# Altium integrated library Resistors_CPF-0805.IntLib: 984 symbols (part 1 of 6)
Pins are listed as number, name and electrical type; pins without a type are passive.

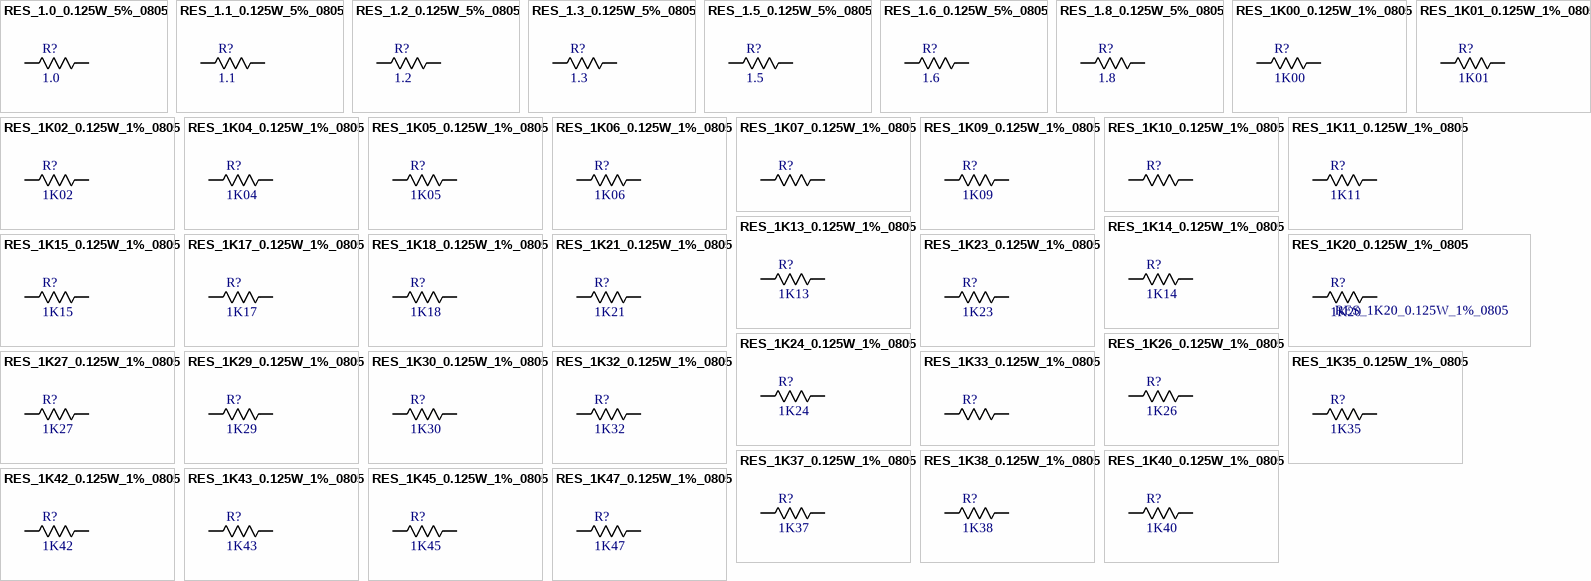
[diagram p0: symbols RES_1.0_0.125W_5%_0805 to RES_1K47_0.125W_1%_0805]

## RES_1.0_0.125W_5%_0805
designator R?  Value[OHM ]: 1.0  (hidden comment: RES_1.0_0.125W_5%_0805)
Resistenza SMD TE Connectivity Film sottile; Voltage[V]: 100; Tollerance[%]: 0.1; Serie: CPF; Vendor: TE Connectivity; Type: Resistors; Package: 0805; Power[W]: 0.1
footprint RES_0816_SUS(My_MAXI)
pins: 1, 2

## RES_1.1_0.125W_5%_0805
designator R?  Value[OHM ]: 1.1  (hidden comment: RES_1.1_0.125W_5%_0805)
Resistenza SMD TE Connectivity Film sottile; Voltage[V]: 100; Tollerance[%]: 0.05; Power[W]: 0.1; Serie: CPF; Vendor: TE Connectivity; Type: Resistors; Package: 0805
footprint RES_0816_SUS(My_MAXI)
pins: 1, 2

## RES_1.2_0.125W_5%_0805
designator R?  Value[OHM ]: 1.2  (hidden comment: RES_1.2_0.125W_5%_0805)
Resistenza SMD TE Connectivity Film sottile; Voltage[V]: 100; Tollerance[%]: 0.05; Power[W]: 0.1; Serie: CPF; Vendor: TE Connectivity; Type: Resistors; Package: 0805
footprint RES_0816_SUS(My_MAXI)
pins: 1, 2

## RES_1.3_0.125W_5%_0805
designator R?  Value[OHM ]: 1.3  (hidden comment: RES_1.3_0.125W_5%_0805)
Resistenza SMD TE Connectivity Film sottile; Voltage[V]: 100; Tollerance[%]: 0.05; Power[W]: 0.1; Serie: CPF; Vendor: TE Connectivity; Type: Resistors; Package: 0805
footprint RES_0816_SUS(My_MAXI)
pins: 1, 2

## RES_1.5_0.125W_5%_0805
designator R?  Value[OHM ]: 1.5  (hidden comment: RES_1.5_0.125W_5%_0805)
Resistenza SMD TE Connectivity Film sottile; Voltage[V]: 100; Tollerance[%]: 0.05; Power[W]: 0.1; Serie: CPF; Vendor: TE Connectivity; Type: Resistors; Package: 0805
footprint RES_0816_SUS(My_MAXI)
pins: 1, 2

## RES_1.6_0.125W_5%_0805
designator R?  Value[OHM ]: 1.6  (hidden comment: RES_1.6_0.125W_5%_0805)
Resistenza SMD TE Connectivity Film sottile; Voltage[V]: 100; Tollerance[%]: 0.05; Power[W]: 0.1; Serie: CPF; Vendor: TE Connectivity; Type: Resistors; Package: 0805
footprint RES_0816_SUS(My_MAXI)
pins: 1, 2

## RES_1.8_0.125W_5%_0805
designator R?  Value[OHM ]: 1.8  (hidden comment: RES_1.8_0.125W_5%_0805)
Resistenza SMD TE Connectivity Film sottile; Voltage[V]: 100; Tollerance[%]: 0.05; Power[W]: 0.1; Serie: CPF; Vendor: TE Connectivity; Type: Resistors; Package: 0805
footprint RES_0816_SUS(My_MAXI)
pins: 1, 2

## RES_1K00_0.125W_1%_0805
designator R?  Value[OHM ]: 1K00  (hidden comment: RES_1K00_0.125W_1%_0805)
Resistenza SMD TE Connectivity Film sottile; Voltage[V]: 100; Tollerance[%]: 0.1; Serie: CPF; Vendor: TE Connectivity; Type: Resistors; Package: 0805; Power[W]: 0.1
footprint RES_0816_SUS(My_MAXI)
pins: 1, 2

## RES_1K01_0.125W_1%_0805
designator R?  Value[OHM ]: 1K01  (hidden comment: RES_1K01_0.125W_1%_0805)
Resistenza SMD TE Connectivity Film sottile; Voltage[V]: 100; Tollerance[%]: 0.1; Serie: CPF; Vendor: TE Connectivity; Type: Resistors; Package: 0805; Power[W]: 0.1
footprint RES_0816_SUS(My_MAXI)
pins: 1, 2

## RES_1K02_0.125W_1%_0805
designator R?  Value[OHM ]: 1K02  (hidden comment: RES_1K02_0.125W_1%_0805)
Resistenza SMD TE Connectivity Film sottile; Voltage[V]: 100; Tollerance[%]: 0.1; Serie: CPF; Vendor: TE Connectivity; Type: Resistors; Package: 0805; Power[W]: 0.1
footprint RES_0816_SUS(My_MAXI)
pins: 1, 2

## RES_1K04_0.125W_1%_0805
designator R?  Value[OHM ]: 1K04  (hidden comment: RES_1K04_0.125W_1%_0805)
Resistenza SMD TE Connectivity Film sottile; Voltage[V]: 100; Tollerance[%]: 0.1; Serie: CPF; Vendor: TE Connectivity; Type: Resistors; Package: 0805; Power[W]: 0.1
footprint RES_0816_SUS(My_MAXI)
pins: 1, 2

## RES_1K05_0.125W_1%_0805
designator R?  Value[OHM ]: 1K05  (hidden comment: RES_1K05_0.125W_1%_0805)
Resistenza SMD TE Connectivity Film sottile; Voltage[V]: 100; Tollerance[%]: 0.1; Serie: CPF; Vendor: TE Connectivity; Type: Resistors; Package: 0805; Power[W]: 0.1
footprint RES_0816_SUS(My_MAXI)
pins: 1, 2

## RES_1K06_0.125W_1%_0805
designator R?  Value[OHM ]: 1K06  (hidden comment: RES_1K06_0.125W_1%_0805)
Resistenza SMD TE Connectivity Film sottile; Voltage[V]: 100; Tollerance[%]: 0.1; Serie: CPF; Vendor: TE Connectivity; Type: Resistors; Package: 0805; Power[W]: 0.1
footprint RES_0816_SUS(My_MAXI)
pins: 1, 2

## RES_1K07_0.125W_1%_0805
designator R?  (value not drawn)
Resistenza SMD TE Connectivity Film sottile; Voltage[V]: 100; Tollerance[%]: 0.1; Serie: CPF; Value[OHM ]: 1K07; Vendor: TE Connectivity; Type: Resistors; Package: 0805; Power[W]: 0.1
footprint RES_0816_SUS(My_MAXI)
pins: 1, 2

## RES_1K09_0.125W_1%_0805
designator R?  Value[OHM ]: 1K09  (hidden comment: RES_1K09_0.125W_1%_0805)
Resistenza SMD TE Connectivity Film sottile; Voltage[V]: 100; Tollerance[%]: 0.1; Serie: CPF; Vendor: TE Connectivity; Type: Resistors; Package: 0805; Power[W]: 0.1
footprint RES_0816_SUS(My_MAXI)
pins: 1, 2

## RES_1K10_0.125W_1%_0805
designator R?  (value not drawn)
Resistenza SMD TE Connectivity Film sottile; Voltage[V]: 100; Tollerance[%]: 0.1; Serie: CPF; Value[OHM ]: 1K10; Vendor: TE Connectivity; Type: Resistors; Package: 0805; Power[W]: 0.1
footprint RES_0816_SUS(My_MAXI)
pins: 1, 2

## RES_1K11_0.125W_1%_0805
designator R?  Value[OHM ]: 1K11  (hidden comment: RES_1K11_0.125W_1%_0805)
Resistenza SMD TE Connectivity Film sottile; Voltage[V]: 100; Tollerance[%]: 0.1; Serie: CPF; Vendor: TE Connectivity; Type: Resistors; Package: 0805; Power[W]: 0.1
footprint RES_0816_SUS(My_MAXI)
pins: 1, 2

## RES_1K13_0.125W_1%_0805
designator R?  Value[OHM ]: 1K13  (hidden comment: RES_1K13_0.125W_1%_0805)
Resistenza SMD TE Connectivity Film sottile; Voltage[V]: 100; Tollerance[%]: 0.1; Serie: CPF; Vendor: TE Connectivity; Type: Resistors; Package: 0805; Power[W]: 0.1
footprint RES_0816_SUS(My_MAXI)
pins: 1, 2

## RES_1K14_0.125W_1%_0805
designator R?  Value[OHM ]: 1K14  (hidden comment: RES_1K14_0.125W_1%_0805)
Resistenza SMD TE Connectivity Film sottile; Voltage[V]: 100; Tollerance[%]: 0.1; Serie: CPF; Vendor: TE Connectivity; Type: Resistors; Package: 0805; Power[W]: 0.1
footprint RES_0816_SUS(My_MAXI)
pins: 1, 2

## RES_1K15_0.125W_1%_0805
designator R?  Value[OHM ]: 1K15  (hidden comment: RES_1K15_0.125W_1%_0805)
Resistenza SMD TE Connectivity Film sottile; Voltage[V]: 100; Tollerance[%]: 0.1; Serie: CPF; Vendor: TE Connectivity; Type: Resistors; Package: 0805; Power[W]: 0.1
footprint RES_0816_SUS(My_MAXI)
pins: 1, 2

## RES_1K17_0.125W_1%_0805
designator R?  Value[OHM ]: 1K17  (hidden comment: RES_1K17_0.125W_1%_0805)
Resistenza SMD TE Connectivity Film sottile; Voltage[V]: 100; Tollerance[%]: 0.1; Serie: CPF; Vendor: TE Connectivity; Type: Resistors; Package: 0805; Power[W]: 0.1
footprint RES_0816_SUS(My_MAXI)
pins: 1, 2

## RES_1K18_0.125W_1%_0805
designator R?  Value[OHM ]: 1K18  (hidden comment: RES_1K18_0.125W_1%_0805)
Resistenza SMD TE Connectivity Film sottile; Voltage[V]: 100; Tollerance[%]: 0.1; Serie: CPF; Vendor: TE Connectivity; Type: Resistors; Package: 0805; Power[W]: 0.1
footprint RES_0816_SUS(My_MAXI)
pins: 1, 2

## RES_1K20_0.125W_1%_0805
designator R?  Value[OHM ]: 1K20
Resistenza SMD TE Connectivity Film sottile; Voltage[V]: 100; Tollerance[%]: 0.1; Serie: CPF; Vendor: TE Connectivity; Type: Resistors; Package: 0805; Power[W]: 0.1
footprint RES_0816_SUS(My_MAXI)
pins: 1, 2

## RES_1K21_0.125W_1%_0805
designator R?  Value[OHM ]: 1K21  (hidden comment: RES_1K21_0.125W_1%_0805)
Resistenza SMD TE Connectivity Film sottile; Voltage[V]: 100; Tollerance[%]: 0.1; Serie: CPF; Vendor: TE Connectivity; Type: Resistors; Package: 0805; Power[W]: 0.1
footprint RES_0816_SUS(My_MAXI)
pins: 1, 2

## RES_1K23_0.125W_1%_0805
designator R?  Value[OHM ]: 1K23  (hidden comment: RES_1K23_0.125W_1%_0805)
Resistenza SMD TE Connectivity Film sottile; Voltage[V]: 100; Tollerance[%]: 0.1; Serie: CPF; Vendor: TE Connectivity; Type: Resistors; Package: 0805; Power[W]: 0.1
footprint RES_0816_SUS(My_MAXI)
pins: 1, 2

## RES_1K24_0.125W_1%_0805
designator R?  Value[OHM ]: 1K24  (hidden comment: RES_1K24_0.125W_1%_0805)
Resistenza SMD TE Connectivity Film sottile; Voltage[V]: 100; Tollerance[%]: 0.1; Serie: CPF; Vendor: TE Connectivity; Type: Resistors; Package: 0805; Power[W]: 0.1
footprint RES_0816_SUS(My_MAXI)
pins: 1, 2

## RES_1K26_0.125W_1%_0805
designator R?  Value[OHM ]: 1K26  (hidden comment: RES_1K26_0.125W_1%_0805)
Resistenza SMD TE Connectivity Film sottile; Voltage[V]: 100; Tollerance[%]: 0.1; Serie: CPF; Vendor: TE Connectivity; Type: Resistors; Package: 0805; Power[W]: 0.1
footprint RES_0816_SUS(My_MAXI)
pins: 1, 2

## RES_1K27_0.125W_1%_0805
designator R?  Value[OHM ]: 1K27  (hidden comment: RES_1K27_0.125W_1%_0805)
Resistenza SMD TE Connectivity Film sottile; Voltage[V]: 100; Tollerance[%]: 0.1; Serie: CPF; Vendor: TE Connectivity; Type: Resistors; Package: 0805; Power[W]: 0.1
footprint RES_0816_SUS(My_MAXI)
pins: 1, 2

## RES_1K29_0.125W_1%_0805
designator R?  Value[OHM ]: 1K29  (hidden comment: RES_1K29_0.125W_1%_0805)
Resistenza SMD TE Connectivity Film sottile; Voltage[V]: 100; Tollerance[%]: 0.1; Serie: CPF; Vendor: TE Connectivity; Type: Resistors; Package: 0805; Power[W]: 0.1
footprint RES_0816_SUS(My_MAXI)
pins: 1, 2

## RES_1K30_0.125W_1%_0805
designator R?  Value[OHM ]: 1K30  (hidden comment: RES_1K30_0.125W_1%_0805)
Resistenza SMD TE Connectivity Film sottile; Voltage[V]: 100; Tollerance[%]: 0.1; Serie: CPF; Vendor: TE Connectivity; Type: Resistors; Package: 0805; Power[W]: 0.1
footprint RES_0816_SUS(My_MAXI)
pins: 1, 2

## RES_1K32_0.125W_1%_0805
designator R?  Value[OHM ]: 1K32  (hidden comment: RES_1K32_0.125W_1%_0805)
Resistenza SMD TE Connectivity Film sottile; Voltage[V]: 100; Tollerance[%]: 0.1; Serie: CPF; Vendor: TE Connectivity; Type: Resistors; Package: 0805; Power[W]: 0.1
footprint RES_0816_SUS(My_MAXI)
pins: 1, 2

## RES_1K33_0.125W_1%_0805
designator R?  (value not drawn)
Resistenza SMD TE Connectivity Film sottile; Voltage[V]: 100; Tollerance[%]: 0.1; Serie: CPF; Value[OHM ]: 1K33; Vendor: TE Connectivity; Type: Resistors; Package: 0805; Power[W]: 0.1
footprint RES_0816_SUS(My_MAXI)
pins: 1, 2

## RES_1K35_0.125W_1%_0805
designator R?  Value[OHM ]: 1K35  (hidden comment: RES_1K35_0.125W_1%_0805)
Resistenza SMD TE Connectivity Film sottile; Voltage[V]: 100; Tollerance[%]: 0.1; Serie: CPF; Vendor: TE Connectivity; Type: Resistors; Package: 0805; Power[W]: 0.1
footprint RES_0816_SUS(My_MAXI)
pins: 1, 2

## RES_1K37_0.125W_1%_0805
designator R?  Value[OHM ]: 1K37  (hidden comment: RES_1K37_0.125W_1%_0805)
Resistenza SMD TE Connectivity Film sottile; Voltage[V]: 100; Tollerance[%]: 0.1; Serie: CPF; Vendor: TE Connectivity; Type: Resistors; Package: 0805; Power[W]: 0.1
footprint RES_0816_SUS(My_MAXI)
pins: 1, 2

## RES_1K38_0.125W_1%_0805
designator R?  Value[OHM ]: 1K38  (hidden comment: RES_1K38_0.125W_1%_0805)
Resistenza SMD TE Connectivity Film sottile; Voltage[V]: 100; Tollerance[%]: 0.1; Serie: CPF; Vendor: TE Connectivity; Type: Resistors; Package: 0805; Power[W]: 0.1
footprint RES_0816_SUS(My_MAXI)
pins: 1, 2

## RES_1K40_0.125W_1%_0805
designator R?  Value[OHM ]: 1K40  (hidden comment: RES_1K40_0.125W_1%_0805)
Resistenza SMD TE Connectivity Film sottile; Voltage[V]: 100; Tollerance[%]: 0.1; Serie: CPF; Vendor: TE Connectivity; Type: Resistors; Package: 0805; Power[W]: 0.1
footprint RES_0816_SUS(My_MAXI)
pins: 1, 2

## RES_1K42_0.125W_1%_0805
designator R?  Value[OHM ]: 1K42  (hidden comment: RES_1K42_0.125W_1%_0805)
Resistenza SMD TE Connectivity Film sottile; Voltage[V]: 100; Tollerance[%]: 0.1; Serie: CPF; Vendor: TE Connectivity; Type: Resistors; Package: 0805; Power[W]: 0.1
footprint RES_0816_SUS(My_MAXI)
pins: 1, 2

## RES_1K43_0.125W_1%_0805
designator R?  Value[OHM ]: 1K43  (hidden comment: RES_1K43_0.125W_1%_0805)
Resistenza SMD TE Connectivity Film sottile; Voltage[V]: 100; Tollerance[%]: 0.1; Serie: CPF; Vendor: TE Connectivity; Type: Resistors; Package: 0805; Power[W]: 0.1
footprint RES_0816_SUS(My_MAXI)
pins: 1, 2

## RES_1K45_0.125W_1%_0805
designator R?  Value[OHM ]: 1K45  (hidden comment: RES_1K45_0.125W_1%_0805)
Resistenza SMD TE Connectivity Film sottile; Voltage[V]: 100; Tollerance[%]: 0.1; Serie: CPF; Vendor: TE Connectivity; Type: Resistors; Package: 0805; Power[W]: 0.1
footprint RES_0816_SUS(My_MAXI)
pins: 1, 2

## RES_1K47_0.125W_1%_0805
designator R?  Value[OHM ]: 1K47  (hidden comment: RES_1K47_0.125W_1%_0805)
Resistenza SMD TE Connectivity Film sottile; Voltage[V]: 100; Tollerance[%]: 0.1; Serie: CPF; Vendor: TE Connectivity; Type: Resistors; Package: 0805; Power[W]: 0.1
footprint RES_0816_SUS(My_MAXI)
pins: 1, 2

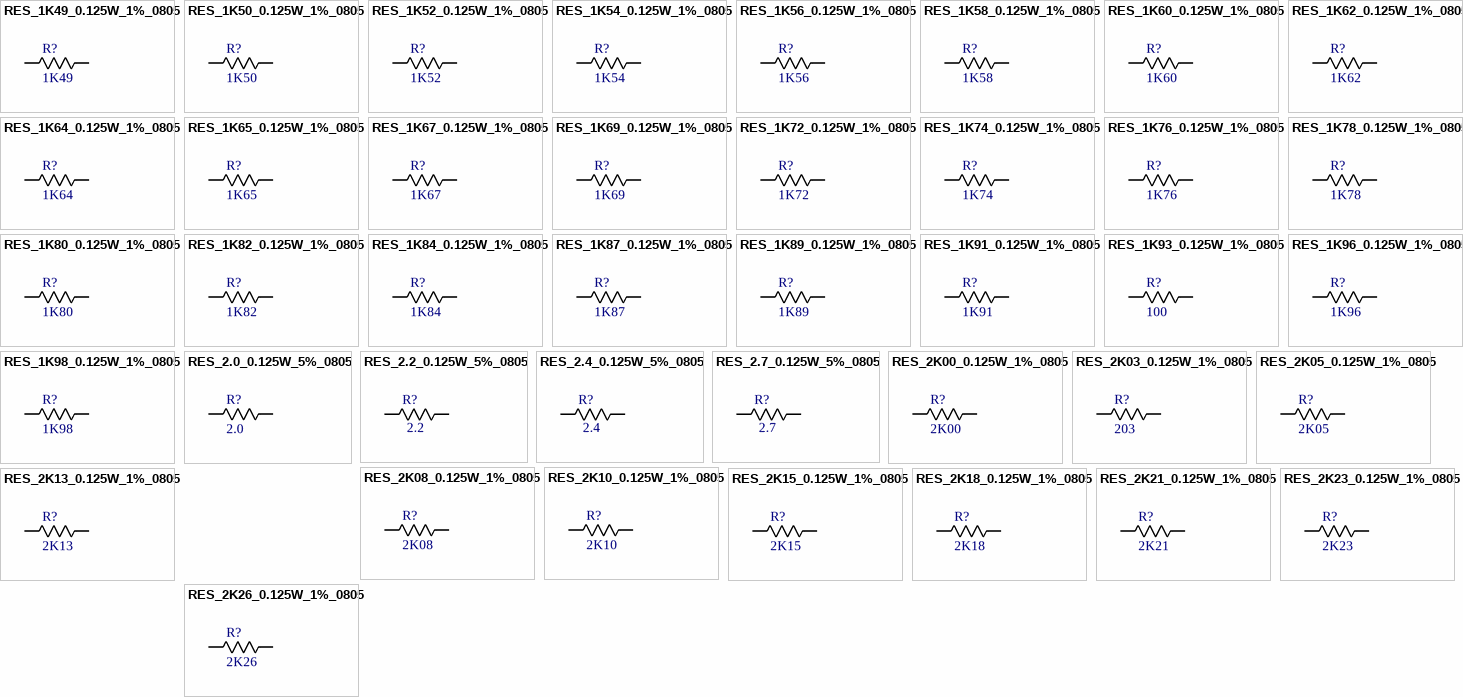
[diagram p1: symbols RES_1K49_0.125W_1%_0805 to RES_2K26_0.125W_1%_0805]

## RES_1K49_0.125W_1%_0805
designator R?  Value[OHM ]: 1K49  (hidden comment: RES_1K49_0.125W_1%_0805)
Resistenza SMD TE Connectivity Film sottile; Voltage[V]: 100; Tollerance[%]: 0.1; Serie: CPF; Vendor: TE Connectivity; Type: Resistors; Package: 0805; Power[W]: 0.1
footprint RES_0816_SUS(My_MAXI)
pins: 1, 2

## RES_1K50_0.125W_1%_0805
designator R?  Value[OHM ]: 1K50  (hidden comment: RES_1K50_0.125W_1%_0805)
Resistenza SMD TE Connectivity Film sottile; Voltage[V]: 100; Tollerance[%]: 0.1; Serie: CPF; Vendor: TE Connectivity; Type: Resistors; Package: 0805; Power[W]: 0.1
footprint RES_0816_SUS(My_MAXI)
pins: 1, 2

## RES_1K52_0.125W_1%_0805
designator R?  Value[OHM ]: 1K52  (hidden comment: RES_1K52_0.125W_1%_0805)
Resistenza SMD TE Connectivity Film sottile; Voltage[V]: 100; Tollerance[%]: 0.1; Serie: CPF; Vendor: TE Connectivity; Type: Resistors; Package: 0805; Power[W]: 0.1
footprint RES_0816_SUS(My_MAXI)
pins: 1, 2

## RES_1K54_0.125W_1%_0805
designator R?  Value[OHM ]: 1K54  (hidden comment: RES_1K54_0.125W_1%_0805)
Resistenza SMD TE Connectivity Film sottile; Voltage[V]: 100; Tollerance[%]: 0.1; Serie: CPF; Vendor: TE Connectivity; Type: Resistors; Package: 0805; Power[W]: 0.1
footprint RES_0816_SUS(My_MAXI)
pins: 1, 2

## RES_1K56_0.125W_1%_0805
designator R?  Value[OHM ]: 1K56  (hidden comment: RES_1K56_0.125W_1%_0805)
Resistenza SMD TE Connectivity Film sottile; Voltage[V]: 100; Tollerance[%]: 0.1; Serie: CPF; Vendor: TE Connectivity; Type: Resistors; Package: 0805; Power[W]: 0.1
footprint RES_0816_SUS(My_MAXI)
pins: 1, 2

## RES_1K58_0.125W_1%_0805
designator R?  Value[OHM ]: 1K58  (hidden comment: RES_1K58_0.125W_1%_0805)
Resistenza SMD TE Connectivity Film sottile; Voltage[V]: 100; Tollerance[%]: 0.1; Serie: CPF; Vendor: TE Connectivity; Type: Resistors; Package: 0805; Power[W]: 0.1
footprint RES_0816_SUS(My_MAXI)
pins: 1, 2

## RES_1K60_0.125W_1%_0805
designator R?  Value[OHM ]: 1K60  (hidden comment: RES_1K60_0.125W_1%_0805)
Resistenza SMD TE Connectivity Film sottile; Voltage[V]: 100; Tollerance[%]: 0.1; Serie: CPF; Vendor: TE Connectivity; Type: Resistors; Package: 0805; Power[W]: 0.1
footprint RES_0816_SUS(My_MAXI)
pins: 1, 2

## RES_1K62_0.125W_1%_0805
designator R?  Value[OHM ]: 1K62  (hidden comment: RES_1K62_0.125W_1%_0805)
Resistenza SMD TE Connectivity Film sottile; Voltage[V]: 100; Tollerance[%]: 0.1; Serie: CPF; Vendor: TE Connectivity; Type: Resistors; Package: 0805; Power[W]: 0.1
footprint RES_0816_SUS(My_MAXI)
pins: 1, 2

## RES_1K64_0.125W_1%_0805
designator R?  Value[OHM ]: 1K64  (hidden comment: RES_1K64_0.125W_1%_0805)
Resistenza SMD TE Connectivity Film sottile; Voltage[V]: 100; Tollerance[%]: 0.1; Serie: CPF; Vendor: TE Connectivity; Type: Resistors; Package: 0805; Power[W]: 0.1
footprint RES_0816_SUS(My_MAXI)
pins: 1, 2

## RES_1K65_0.125W_1%_0805
designator R?  Value[OHM ]: 1K65  (hidden comment: RES_1K65_0.125W_1%_0805)
Resistenza SMD TE Connectivity Film sottile; Voltage[V]: 100; Tollerance[%]: 0.1; Serie: CPF; Vendor: TE Connectivity; Type: Resistors; Package: 0805; Power[W]: 0.1
footprint RES_0816_SUS(My_MAXI)
pins: 1, 2

## RES_1K67_0.125W_1%_0805
designator R?  Value[OHM ]: 1K67  (hidden comment: RES_1K67_0.125W_1%_0805)
Resistenza SMD TE Connectivity Film sottile; Voltage[V]: 100; Tollerance[%]: 0.1; Serie: CPF; Vendor: TE Connectivity; Type: Resistors; Package: 0805; Power[W]: 0.1
footprint RES_0816_SUS(My_MAXI)
pins: 1, 2

## RES_1K69_0.125W_1%_0805
designator R?  Value[OHM ]: 1K69  (hidden comment: RES_1K69_0.125W_1%_0805)
Resistenza SMD TE Connectivity Film sottile; Voltage[V]: 100; Tollerance[%]: 0.1; Serie: CPF; Vendor: TE Connectivity; Type: Resistors; Package: 0805; Power[W]: 0.1
footprint RES_0816_SUS(My_MAXI)
pins: 1, 2

## RES_1K72_0.125W_1%_0805
designator R?  Value[OHM ]: 1K72  (hidden comment: RES_1K72_0.125W_1%_0805)
Resistenza SMD TE Connectivity Film sottile; Voltage[V]: 100; Tollerance[%]: 0.1; Serie: CPF; Vendor: TE Connectivity; Type: Resistors; Package: 0805; Power[W]: 0.1
footprint RES_0816_SUS(My_MAXI)
pins: 1, 2

## RES_1K74_0.125W_1%_0805
designator R?  Value[OHM ]: 1K74  (hidden comment: RES_1K74_0.125W_1%_0805)
Resistenza SMD TE Connectivity Film sottile; Voltage[V]: 100; Tollerance[%]: 0.1; Serie: CPF; Vendor: TE Connectivity; Type: Resistors; Package: 0805; Power[W]: 0.1
footprint RES_0816_SUS(My_MAXI)
pins: 1, 2

## RES_1K76_0.125W_1%_0805
designator R?  Value[OHM ]: 1K76  (hidden comment: RES_1K76_0.125W_1%_0805)
Resistenza SMD TE Connectivity Film sottile; Voltage[V]: 100; Tollerance[%]: 0.1; Serie: CPF; Vendor: TE Connectivity; Type: Resistors; Package: 0805; Power[W]: 0.1
footprint RES_0816_SUS(My_MAXI)
pins: 1, 2

## RES_1K78_0.125W_1%_0805
designator R?  Value[OHM ]: 1K78  (hidden comment: RES_1K78_0.125W_1%_0805)
Resistenza SMD TE Connectivity Film sottile; Voltage[V]: 100; Tollerance[%]: 0.1; Serie: CPF; Vendor: TE Connectivity; Type: Resistors; Package: 0805; Power[W]: 0.1
footprint RES_0816_SUS(My_MAXI)
pins: 1, 2

## RES_1K80_0.125W_1%_0805
designator R?  Value[OHM ]: 1K80  (hidden comment: RES_1K80_0.125W_1%_0805)
Resistenza SMD TE Connectivity Film sottile; Voltage[V]: 100; Tollerance[%]: 0.1; Serie: CPF; Vendor: TE Connectivity; Type: Resistors; Package: 0805; Power[W]: 0.1
footprint RES_0816_SUS(My_MAXI)
pins: 1, 2

## RES_1K82_0.125W_1%_0805
designator R?  Value[OHM ]: 1K82  (hidden comment: RES_1K82_0.125W_1%_0805)
Resistenza SMD TE Connectivity Film sottile; Voltage[V]: 100; Tollerance[%]: 0.1; Serie: CPF; Vendor: TE Connectivity; Type: Resistors; Package: 0805; Power[W]: 0.1
footprint RES_0816_SUS(My_MAXI)
pins: 1, 2

## RES_1K84_0.125W_1%_0805
designator R?  Value[OHM ]: 1K84  (hidden comment: RES_1K84_0.125W_1%_0805)
Resistenza SMD TE Connectivity Film sottile; Voltage[V]: 100; Tollerance[%]: 0.1; Serie: CPF; Vendor: TE Connectivity; Type: Resistors; Package: 0805; Power[W]: 0.1
footprint RES_0816_SUS(My_MAXI)
pins: 1, 2

## RES_1K87_0.125W_1%_0805
designator R?  Value[OHM ]: 1K87  (hidden comment: RES_1K87_0.125W_1%_0805)
Resistenza SMD TE Connectivity Film sottile; Voltage[V]: 100; Tollerance[%]: 0.1; Serie: CPF; Vendor: TE Connectivity; Type: Resistors; Package: 0805; Power[W]: 0.1
footprint RES_0816_SUS(My_MAXI)
pins: 1, 2

## RES_1K89_0.125W_1%_0805
designator R?  Value[OHM ]: 1K89  (hidden comment: RES_1K89_0.125W_1%_0805)
Resistenza SMD TE Connectivity Film sottile; Voltage[V]: 100; Tollerance[%]: 0.1; Serie: CPF; Vendor: TE Connectivity; Type: Resistors; Package: 0805; Power[W]: 0.1
footprint RES_0816_SUS(My_MAXI)
pins: 1, 2

## RES_1K91_0.125W_1%_0805
designator R?  Value[OHM ]: 1K91  (hidden comment: RES_1K91_0.125W_1%_0805)
Resistenza SMD TE Connectivity Film sottile; Voltage[V]: 100; Tollerance[%]: 0.1; Serie: CPF; Vendor: TE Connectivity; Type: Resistors; Package: 0805; Power[W]: 0.1
footprint RES_0816_SUS(My_MAXI)
pins: 1, 2

## RES_1K93_0.125W_1%_0805
designator R?  Value[OHM ]: 100  (hidden comment: RES_1K93_0.125W_1%_0805)
Resistenza SMD TE Connectivity Film sottile; Tollerance[%]: 0.1; Serie: CPF; Vendor: TE Connectivity; Type: Resistors; Voltage[V]: 100; Package: 0805; Power[W]: 0.1
footprint RES_0816_SUS(My_MAXI)
pins: 1, 2

## RES_1K96_0.125W_1%_0805
designator R?  Value[OHM ]: 1K96  (hidden comment: RES_1K96_0.125W_1%_0805)
Resistenza SMD TE Connectivity Film sottile; Voltage[V]: 100; Tollerance[%]: 0.1; Serie: CPF; Vendor: TE Connectivity; Type: Resistors; Package: 0805; Power[W]: 0.1
footprint RES_0816_SUS(My_MAXI)
pins: 1, 2

## RES_1K98_0.125W_1%_0805
designator R?  Value[OHM ]: 1K98  (hidden comment: RES_1K98_0.125W_1%_0805)
Resistenza SMD TE Connectivity Film sottile; Voltage[V]: 100; Tollerance[%]: 0.1; Serie: CPF; Vendor: TE Connectivity; Type: Resistors; Package: 0805; Power[W]: 0.1
footprint RES_0816_SUS(My_MAXI)
pins: 1, 2

## RES_2.0_0.125W_5%_0805
designator R?  Value[OHM ]: 2.0  (hidden comment: RES_2.0_0.125W_5%_0805)
Resistenza SMD TE Connectivity Film sottile; Voltage[V]: 100; Tollerance[%]: 0.05; Power[W]: 0.1; Serie: CPF; Vendor: TE Connectivity; Type: Resistors; Package: 0805
footprint RES_0816_SUS(My_MAXI)
pins: 1, 2

## RES_2.2_0.125W_5%_0805
designator R?, comment 2.2
Resistenza SMD TE Connectivity Film sottile; Voltage[V]: 100; Tollerance[%]: 0.05; Power[W]: 0.1; Serie: CPF; Vendor: TE Connectivity; Type: Resistors; Package: 0805; Value[OHM ]: 2.2
footprint RES_0816_SUS(My_MAXI)
pins: 1, 2

## RES_2.4_0.125W_5%_0805
designator R?, comment 2.4
Resistenza SMD TE Connectivity Film sottile; Voltage[V]: 100; Tollerance[%]: 0.05; Power[W]: 0.1; Serie: CPF; Vendor: TE Connectivity; Type: Resistors; Package: 0805; Value[OHM ]: 2.4
footprint RES_0816_SUS(My_MAXI)
pins: 1, 2

## RES_2.7_0.125W_5%_0805
designator R?, comment 2.7
Resistenza SMD TE Connectivity Film sottile; Voltage[V]: 100; Tollerance[%]: 0.05; Power[W]: 0.1; Serie: CPF; Vendor: TE Connectivity; Type: Resistors; Package: 0805; Value[OHM ]: 2.7
footprint RES_0816_SUS(My_MAXI)
pins: 1, 2

## RES_2K00_0.125W_1%_0805
designator R?  Value[OHM ]: 2K00  (hidden comment: RES_2K00_0.125W_1%_0805)
Resistenza SMD TE Connectivity Film sottile; Voltage[V]: 100; Tollerance[%]: 0.1; Serie: CPF; Vendor: TE Connectivity; Type: Resistors; Package: 0805; Power[W]: 0.1
footprint RES_0816_SUS(My_MAXI)
pins: 1, 2

## RES_2K03_0.125W_1%_0805
designator R?  Value[OHM ]: 203  (hidden comment: RES_2K03_0.125W_1%_0805)
Resistenza SMD TE Connectivity Film sottile; Voltage[V]: 100; Tollerance[%]: 0.1; Serie: CPF; Vendor: TE Connectivity; Type: Resistors; Package: 0805; Power[W]: 0.1
footprint RES_0816_SUS(My_MAXI)
pins: 1, 2

## RES_2K05_0.125W_1%_0805
designator R?  Value[OHM ]: 2K05  (hidden comment: RES_2K05_0.125W_1%_0805)
Resistenza SMD TE Connectivity Film sottile; Voltage[V]: 100; Tollerance[%]: 0.1; Serie: CPF; Vendor: TE Connectivity; Type: Resistors; Package: 0805; Power[W]: 0.1
footprint RES_0816_SUS(My_MAXI)
pins: 1, 2

## RES_2K08_0.125W_1%_0805
designator R?  Value[OHM ]: 2K08  (hidden comment: RES_2K08_0.125W_1%_0805)
Resistenza SMD TE Connectivity Film sottile; Voltage[V]: 100; Tollerance[%]: 0.1; Serie: CPF; Vendor: TE Connectivity; Type: Resistors; Package: 0805; Power[W]: 0.1
footprint RES_0816_SUS(My_MAXI)
pins: 1, 2

## RES_2K10_0.125W_1%_0805
designator R?  Value[OHM ]: 2K10  (hidden comment: RES_2K10_0.125W_1%_0805)
Resistenza SMD TE Connectivity Film sottile; Voltage[V]: 100; Tollerance[%]: 0.1; Serie: CPF; Vendor: TE Connectivity; Type: Resistors; Package: 0805; Power[W]: 0.1
footprint RES_0816_SUS(My_MAXI)
pins: 1, 2

## RES_2K13_0.125W_1%_0805
designator R?  Value[OHM ]: 2K13  (hidden comment: RES_2K13_0.125W_1%_0805)
Resistenza SMD TE Connectivity Film sottile; Voltage[V]: 100; Tollerance[%]: 0.1; Serie: CPF; Vendor: TE Connectivity; Type: Resistors; Package: 0805; Power[W]: 0.1
footprint RES_0816_SUS(My_MAXI)
pins: 1, 2

## RES_2K15_0.125W_1%_0805
designator R?  Value[OHM ]: 2K15  (hidden comment: RES_2K15_0.125W_1%_0805)
Resistenza SMD TE Connectivity Film sottile; Voltage[V]: 100; Tollerance[%]: 0.1; Serie: CPF; Vendor: TE Connectivity; Type: Resistors; Package: 0805; Power[W]: 0.1
footprint RES_0816_SUS(My_MAXI)
pins: 1, 2

## RES_2K18_0.125W_1%_0805
designator R?  Value[OHM ]: 2K18  (hidden comment: RES_2K18_0.125W_1%_0805)
Resistenza SMD TE Connectivity Film sottile; Voltage[V]: 100; Tollerance[%]: 0.1; Serie: CPF; Vendor: TE Connectivity; Type: Resistors; Package: 0805; Power[W]: 0.1
footprint RES_0816_SUS(My_MAXI)
pins: 1, 2

## RES_2K21_0.125W_1%_0805
designator R?  Value[OHM ]: 2K21  (hidden comment: RES_2K21_0.125W_1%_0805)
Resistenza SMD TE Connectivity Film sottile; Voltage[V]: 100; Tollerance[%]: 0.1; Serie: CPF; Vendor: TE Connectivity; Type: Resistors; Package: 0805; Power[W]: 0.1
footprint RES_0816_SUS(My_MAXI)
pins: 1, 2

## RES_2K23_0.125W_1%_0805
designator R?  Value[OHM ]: 2K23  (hidden comment: RES_2K23_0.125W_1%_0805)
Resistenza SMD TE Connectivity Film sottile; Voltage[V]: 100; Tollerance[%]: 0.1; Serie: CPF; Vendor: TE Connectivity; Type: Resistors; Package: 0805; Power[W]: 0.1
footprint RES_0816_SUS(My_MAXI)
pins: 1, 2

## RES_2K26_0.125W_1%_0805
designator R?  Value[OHM ]: 2K26  (hidden comment: RES_2K26_0.125W_1%_0805)
Resistenza SMD TE Connectivity Film sottile; Voltage[V]: 100; Tollerance[%]: 0.1; Serie: CPF; Vendor: TE Connectivity; Type: Resistors; Package: 0805; Power[W]: 0.1
footprint RES_0816_SUS(My_MAXI)
pins: 1, 2

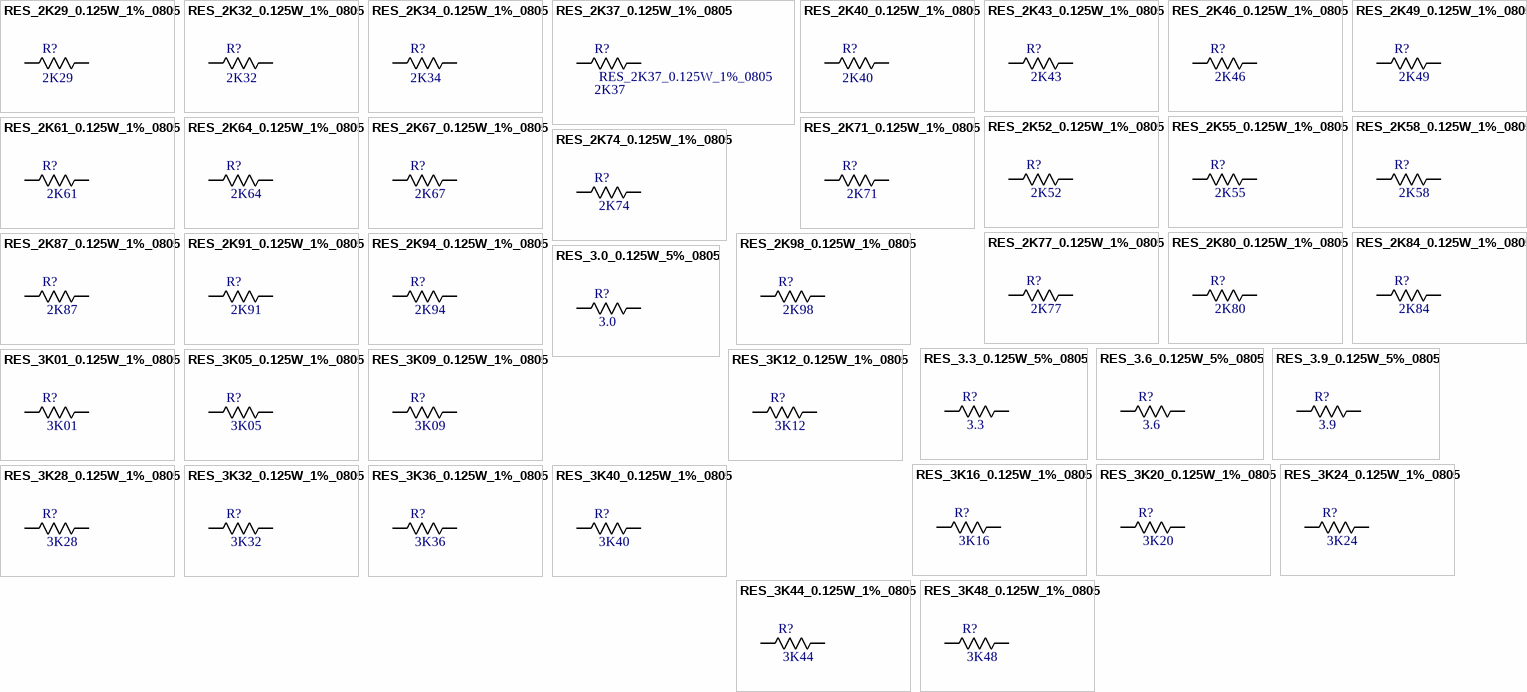
[diagram p2: symbols RES_2K29_0.125W_1%_0805 to RES_3K48_0.125W_1%_0805]

## RES_2K29_0.125W_1%_0805
designator R?  Value[OHM ]: 2K29  (hidden comment: RES_2K29_0.125W_1%_0805)
Resistenza SMD TE Connectivity Film sottile; Voltage[V]: 100; Tollerance[%]: 0.1; Serie: CPF; Vendor: TE Connectivity; Type: Resistors; Package: 0805; Power[W]: 0.1
footprint RES_0816_SUS(My_MAXI)
pins: 1, 2

## RES_2K32_0.125W_1%_0805
designator R?  Value[OHM ]: 2K32  (hidden comment: RES_2K32_0.125W_1%_0805)
Resistenza SMD TE Connectivity Film sottile; Voltage[V]: 100; Tollerance[%]: 0.1; Serie: CPF; Vendor: TE Connectivity; Type: Resistors; Package: 0805; Power[W]: 0.1
footprint RES_0816_SUS(My_MAXI)
pins: 1, 2

## RES_2K34_0.125W_1%_0805
designator R?  Value[OHM ]: 2K34  (hidden comment: RES_2K34_0.125W_1%_0805)
Resistenza SMD TE Connectivity Film sottile; Voltage[V]: 100; Tollerance[%]: 0.1; Serie: CPF; Vendor: TE Connectivity; Type: Resistors; Package: 0805; Power[W]: 0.1
footprint RES_0816_SUS(My_MAXI)
pins: 1, 2

## RES_2K37_0.125W_1%_0805
designator R?  Value[OHM ]: 2K37
Resistenza SMD TE Connectivity Film sottile; Voltage[V]: 100; Tollerance[%]: 0.1; Serie: CPF; Vendor: TE Connectivity; Type: Resistors; Package: 0805; Power[W]: 0.1
footprint RES_0816_SUS(My_MAXI)
pins: 1, 2

## RES_2K40_0.125W_1%_0805
designator R?  Value[OHM ]: 2K40  (hidden comment: RES_2K40_0.125W_1%_0805)
Resistenza SMD TE Connectivity Film sottile; Voltage[V]: 100; Tollerance[%]: 0.1; Serie: CPF; Vendor: TE Connectivity; Type: Resistors; Package: 0805; Power[W]: 0.1
footprint RES_0816_SUS(My_MAXI)
pins: 1, 2

## RES_2K43_0.125W_1%_0805
designator R?, comment 2K43
Resistenza SMD TE Connectivity Film sottile; Voltage[V]: 100; Tollerance[%]: 0.1; Serie: CPF; Vendor: TE Connectivity; Type: Resistors; Package: 0805; Power[W]: 0.1; Value[OHM ]: 2K43
footprint RES_0816_SUS(My_MAXI)
pins: 1, 2

## RES_2K46_0.125W_1%_0805
designator R?, comment 2K46
Resistenza SMD TE Connectivity Film sottile; Voltage[V]: 100; Tollerance[%]: 0.1; Serie: CPF; Vendor: TE Connectivity; Type: Resistors; Package: 0805; Power[W]: 0.1; Value[OHM ]: 2K46
footprint RES_0816_SUS(My_MAXI)
pins: 1, 2

## RES_2K49_0.125W_1%_0805
designator R?, comment 2K49
Resistenza SMD TE Connectivity Film sottile; Voltage[V]: 100; Tollerance[%]: 0.1; Serie: CPF; Vendor: TE Connectivity; Type: Resistors; Package: 0805; Power[W]: 0.1; Value[OHM ]: 2K49
footprint RES_0816_SUS(My_MAXI)
pins: 1, 2

## RES_2K52_0.125W_1%_0805
designator R?, comment 2K52
Resistenza SMD TE Connectivity Film sottile; Voltage[V]: 100; Tollerance[%]: 0.1; Serie: CPF; Vendor: TE Connectivity; Type: Resistors; Package: 0805; Power[W]: 0.1; Value[OHM ]: 2K52
footprint RES_0816_SUS(My_MAXI)
pins: 1, 2

## RES_2K55_0.125W_1%_0805
designator R?, comment 2K55
Resistenza SMD TE Connectivity Film sottile; Voltage[V]: 100; Tollerance[%]: 0.1; Serie: CPF; Vendor: TE Connectivity; Type: Resistors; Package: 0805; Power[W]: 0.1; Value[OHM ]: 2K55
footprint RES_0816_SUS(My_MAXI)
pins: 1, 2

## RES_2K58_0.125W_1%_0805
designator R?, comment 2K58
Resistenza SMD TE Connectivity Film sottile; Voltage[V]: 100; Tollerance[%]: 0.1; Serie: CPF; Vendor: TE Connectivity; Type: Resistors; Package: 0805; Power[W]: 0.1; Value[OHM ]: 2K58
footprint RES_0816_SUS(My_MAXI)
pins: 1, 2

## RES_2K61_0.125W_1%_0805
designator R?, comment 2K61
Resistenza SMD TE Connectivity Film sottile; Voltage[V]: 100; Tollerance[%]: 0.1; Serie: CPF; Vendor: TE Connectivity; Type: Resistors; Package: 0805; Power[W]: 0.1; Value[OHM ]: 2K61
footprint RES_0816_SUS(My_MAXI)
pins: 1, 2

## RES_2K64_0.125W_1%_0805
designator R?, comment 2K64
Resistenza SMD TE Connectivity Film sottile; Voltage[V]: 100; Tollerance[%]: 0.1; Serie: CPF; Vendor: TE Connectivity; Type: Resistors; Package: 0805; Power[W]: 0.1; Value[OHM ]: 2K64
footprint RES_0816_SUS(My_MAXI)
pins: 1, 2

## RES_2K67_0.125W_1%_0805
designator R?, comment 2K67
Resistenza SMD TE Connectivity Film sottile; Voltage[V]: 100; Tollerance[%]: 0.1; Serie: CPF; Vendor: TE Connectivity; Type: Resistors; Package: 0805; Power[W]: 0.1; Value[OHM ]: 2K67
footprint RES_0816_SUS(My_MAXI)
pins: 1, 2

## RES_2K71_0.125W_1%_0805
designator R?, comment 2K71
Resistenza SMD TE Connectivity Film sottile; Voltage[V]: 100; Tollerance[%]: 0.1; Serie: CPF; Vendor: TE Connectivity; Type: Resistors; Package: 0805; Power[W]: 0.1; Value[OHM ]: 2K71
footprint RES_0816_SUS(My_MAXI)
pins: 1, 2

## RES_2K74_0.125W_1%_0805
designator R?, comment 2K74
Resistenza SMD TE Connectivity Film sottile; Voltage[V]: 100; Tollerance[%]: 0.1; Serie: CPF; Vendor: TE Connectivity; Type: Resistors; Package: 0805; Power[W]: 0.1; Value[OHM ]: 2K74
footprint RES_0816_SUS(My_MAXI)
pins: 1, 2

## RES_2K77_0.125W_1%_0805
designator R?, comment 2K77
Resistenza SMD TE Connectivity Film sottile; Voltage[V]: 100; Tollerance[%]: 0.1; Serie: CPF; Vendor: TE Connectivity; Type: Resistors; Package: 0805; Power[W]: 0.1; Value[OHM ]: 2K77
footprint RES_0816_SUS(My_MAXI)
pins: 1, 2

## RES_2K80_0.125W_1%_0805
designator R?, comment 2K80
Resistenza SMD TE Connectivity Film sottile; Voltage[V]: 100; Tollerance[%]: 0.1; Serie: CPF; Vendor: TE Connectivity; Type: Resistors; Package: 0805; Power[W]: 0.1; Value[OHM ]: 2K80
footprint RES_0816_SUS(My_MAXI)
pins: 1, 2

## RES_2K84_0.125W_1%_0805
designator R?, comment 2K84
Resistenza SMD TE Connectivity Film sottile; Voltage[V]: 100; Tollerance[%]: 0.1; Serie: CPF; Vendor: TE Connectivity; Type: Resistors; Package: 0805; Power[W]: 0.1; Value[OHM ]: 2K84
footprint RES_0816_SUS(My_MAXI)
pins: 1, 2

## RES_2K87_0.125W_1%_0805
designator R?, comment 2K87
Resistenza SMD TE Connectivity Film sottile; Voltage[V]: 100; Tollerance[%]: 0.1; Serie: CPF; Vendor: TE Connectivity; Type: Resistors; Package: 0805; Power[W]: 0.1; Value[OHM ]: 2K87
footprint RES_0816_SUS(My_MAXI)
pins: 1, 2

## RES_2K91_0.125W_1%_0805
designator R?, comment 2K91
Resistenza SMD TE Connectivity Film sottile; Voltage[V]: 100; Tollerance[%]: 0.1; Serie: CPF; Vendor: TE Connectivity; Type: Resistors; Package: 0805; Power[W]: 0.1; Value[OHM ]: 2K91
footprint RES_0816_SUS(My_MAXI)
pins: 1, 2

## RES_2K94_0.125W_1%_0805
designator R?, comment 2K94
Resistenza SMD TE Connectivity Film sottile; Voltage[V]: 100; Tollerance[%]: 0.1; Serie: CPF; Vendor: TE Connectivity; Type: Resistors; Package: 0805; Power[W]: 0.1; Value[OHM ]: 2K94
footprint RES_0816_SUS(My_MAXI)
pins: 1, 2

## RES_2K98_0.125W_1%_0805
designator R?, comment 2K98
Resistenza SMD TE Connectivity Film sottile; Voltage[V]: 100; Tollerance[%]: 0.1; Serie: CPF; Vendor: TE Connectivity; Type: Resistors; Package: 0805; Power[W]: 0.1; Value[OHM ]: 2K98
footprint RES_0816_SUS(My_MAXI)
pins: 1, 2

## RES_3.0_0.125W_5%_0805
designator R?, comment 3.0
Resistenza SMD TE Connectivity Film sottile; Voltage[V]: 100; Tollerance[%]: 0.05; Power[W]: 0.1; Serie: CPF; Vendor: TE Connectivity; Type: Resistors; Package: 0805; Value[OHM ]: 3.0
footprint RES_0816_SUS(My_MAXI)
pins: 1, 2

## RES_3.3_0.125W_5%_0805
designator R?, comment 3.3
Resistenza SMD TE Connectivity Film sottile; Voltage[V]: 100; Tollerance[%]: 0.05; Power[W]: 0.1; Serie: CPF; Vendor: TE Connectivity; Type: Resistors; Package: 0805; Value[OHM ]: 3.3
footprint RES_0816_SUS(My_MAXI)
pins: 1, 2

## RES_3.6_0.125W_5%_0805
designator R?, comment 3.6
Resistenza SMD TE Connectivity Film sottile; Voltage[V]: 100; Tollerance[%]: 0.05; Power[W]: 0.1; Serie: CPF; Vendor: TE Connectivity; Type: Resistors; Package: 0805; Value[OHM ]: 3.6
footprint RES_0816_SUS(My_MAXI)
pins: 1, 2

## RES_3.9_0.125W_5%_0805
designator R?, comment 3.9
Resistenza SMD TE Connectivity Film sottile; Voltage[V]: 100; Tollerance[%]: 0.05; Power[W]: 0.1; Serie: CPF; Vendor: TE Connectivity; Type: Resistors; Package: 0805; Value[OHM ]: 3.9
footprint RES_0816_SUS(My_MAXI)
pins: 1, 2

## RES_3K01_0.125W_1%_0805
designator R?, comment 3K01
Resistenza SMD TE Connectivity Film sottile; Voltage[V]: 100; Tollerance[%]: 0.1; Serie: CPF; Vendor: TE Connectivity; Type: Resistors; Package: 0805; Power[W]: 0.1; Value[OHM ]: 3K01
footprint RES_0816_SUS(My_MAXI)
pins: 1, 2

## RES_3K05_0.125W_1%_0805
designator R?, comment 3K05
Resistenza SMD TE Connectivity Film sottile; Voltage[V]: 100; Tollerance[%]: 0.1; Serie: CPF; Vendor: TE Connectivity; Type: Resistors; Package: 0805; Power[W]: 0.1; Value[OHM ]: 3K05
footprint RES_0816_SUS(My_MAXI)
pins: 1, 2

## RES_3K09_0.125W_1%_0805
designator R?, comment 3K09
Resistenza SMD TE Connectivity Film sottile; Voltage[V]: 100; Tollerance[%]: 0.1; Serie: CPF; Vendor: TE Connectivity; Type: Resistors; Package: 0805; Power[W]: 0.1; Value[OHM ]: 3K09
footprint RES_0816_SUS(My_MAXI)
pins: 1, 2

## RES_3K12_0.125W_1%_0805
designator R?, comment 3K12
Resistenza SMD TE Connectivity Film sottile; Voltage[V]: 100; Tollerance[%]: 0.1; Serie: CPF; Vendor: TE Connectivity; Type: Resistors; Package: 0805; Power[W]: 0.1; Value[OHM ]: 3K12
footprint RES_0816_SUS(My_MAXI)
pins: 1, 2

## RES_3K16_0.125W_1%_0805
designator R?, comment 3K16
Resistenza SMD TE Connectivity Film sottile; Voltage[V]: 100; Tollerance[%]: 0.1; Serie: CPF; Vendor: TE Connectivity; Type: Resistors; Package: 0805; Power[W]: 0.1; Value[OHM ]: 3K16
footprint RES_0816_SUS(My_MAXI)
pins: 1, 2

## RES_3K20_0.125W_1%_0805
designator R?, comment 3K20
Resistenza SMD TE Connectivity Film sottile; Voltage[V]: 100; Tollerance[%]: 0.1; Serie: CPF; Vendor: TE Connectivity; Type: Resistors; Package: 0805; Power[W]: 0.1; Value[OHM ]: 3K20
footprint RES_0816_SUS(My_MAXI)
pins: 1, 2

## RES_3K24_0.125W_1%_0805
designator R?, comment 3K24
Resistenza SMD TE Connectivity Film sottile; Voltage[V]: 100; Tollerance[%]: 0.1; Serie: CPF; Vendor: TE Connectivity; Type: Resistors; Package: 0805; Power[W]: 0.1; Value[OHM ]: 3K24
footprint RES_0816_SUS(My_MAXI)
pins: 1, 2

## RES_3K28_0.125W_1%_0805
designator R?, comment 3K28
Resistenza SMD TE Connectivity Film sottile; Voltage[V]: 100; Tollerance[%]: 0.1; Serie: CPF; Vendor: TE Connectivity; Type: Resistors; Package: 0805; Power[W]: 0.1; Value[OHM ]: 3K28
footprint RES_0816_SUS(My_MAXI)
pins: 1, 2

## RES_3K32_0.125W_1%_0805
designator R?, comment 3K32
Resistenza SMD TE Connectivity Film sottile; Voltage[V]: 100; Tollerance[%]: 0.1; Serie: CPF; Vendor: TE Connectivity; Type: Resistors; Package: 0805; Power[W]: 0.1; Value[OHM ]: 3K32
footprint RES_0816_SUS(My_MAXI)
pins: 1, 2

## RES_3K36_0.125W_1%_0805
designator R?, comment 3K36
Resistenza SMD TE Connectivity Film sottile; Voltage[V]: 100; Tollerance[%]: 0.1; Serie: CPF; Vendor: TE Connectivity; Type: Resistors; Package: 0805; Power[W]: 0.1; Value[OHM ]: 3K36
footprint RES_0816_SUS(My_MAXI)
pins: 1, 2

## RES_3K40_0.125W_1%_0805
designator R?, comment 3K40
Resistenza SMD TE Connectivity Film sottile; Voltage[V]: 100; Tollerance[%]: 0.1; Serie: CPF; Vendor: TE Connectivity; Type: Resistors; Package: 0805; Power[W]: 0.1; Value[OHM ]: 3K40
footprint RES_0816_SUS(My_MAXI)
pins: 1, 2

## RES_3K44_0.125W_1%_0805
designator R?, comment 3K44
Resistenza SMD TE Connectivity Film sottile; Voltage[V]: 100; Tollerance[%]: 0.1; Serie: CPF; Vendor: TE Connectivity; Type: Resistors; Package: 0805; Power[W]: 0.1; Value[OHM ]: 3K44
footprint RES_0816_SUS(My_MAXI)
pins: 1, 2

## RES_3K48_0.125W_1%_0805
designator R?, comment 3K48
Resistenza SMD TE Connectivity Film sottile; Voltage[V]: 100; Tollerance[%]: 0.1; Serie: CPF; Vendor: TE Connectivity; Type: Resistors; Package: 0805; Power[W]: 0.1; Value[OHM ]: 3K48
footprint RES_0816_SUS(My_MAXI)
pins: 1, 2

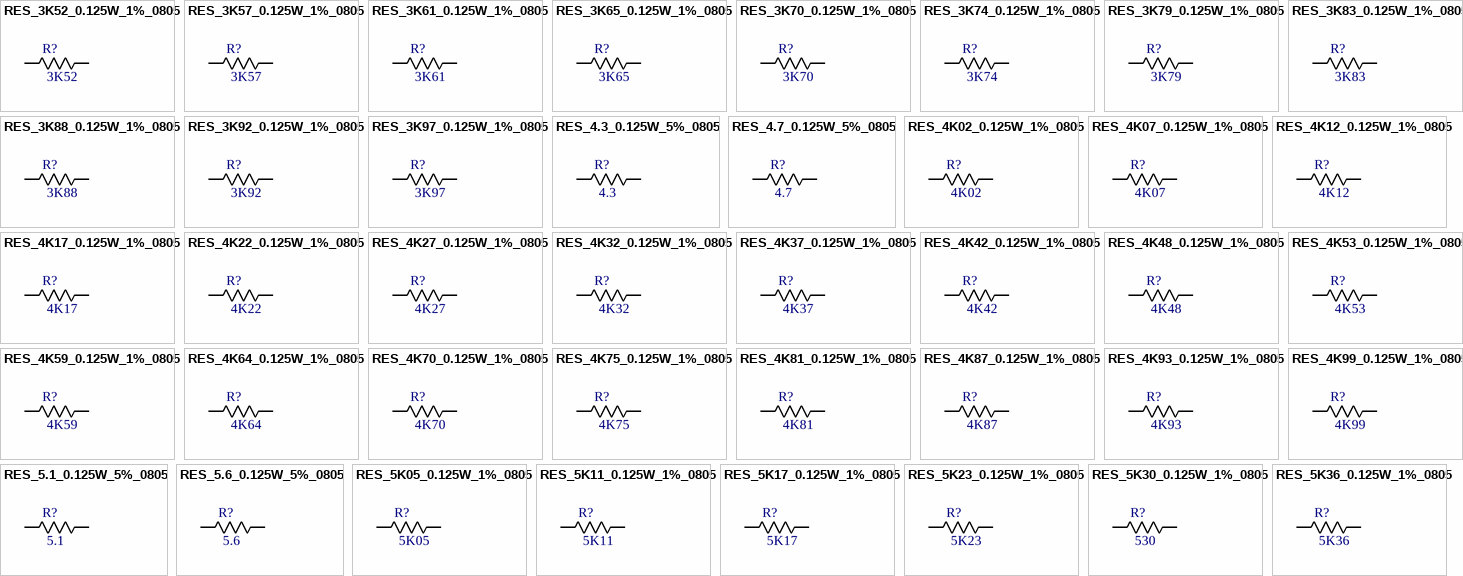
[diagram p3: symbols RES_3K52_0.125W_1%_0805 to RES_5K36_0.125W_1%_0805]

## RES_3K52_0.125W_1%_0805
designator R?, comment 3K52
Resistenza SMD TE Connectivity Film sottile; Voltage[V]: 100; Tollerance[%]: 0.1; Serie: CPF; Vendor: TE Connectivity; Type: Resistors; Package: 0805; Power[W]: 0.1; Value[OHM ]: 3K52
footprint RES_0816_SUS(My_MAXI)
pins: 1, 2

## RES_3K57_0.125W_1%_0805
designator R?, comment 3K57
Resistenza SMD TE Connectivity Film sottile; Voltage[V]: 100; Tollerance[%]: 0.1; Serie: CPF; Vendor: TE Connectivity; Type: Resistors; Package: 0805; Power[W]: 0.1; Value[OHM ]: 3K57
footprint RES_0816_SUS(My_MAXI)
pins: 1, 2

## RES_3K61_0.125W_1%_0805
designator R?, comment 3K61
Resistenza SMD TE Connectivity Film sottile; Voltage[V]: 100; Tollerance[%]: 0.1; Serie: CPF; Vendor: TE Connectivity; Type: Resistors; Package: 0805; Power[W]: 0.1; Value[OHM ]: 3K61
footprint RES_0816_SUS(My_MAXI)
pins: 1, 2

## RES_3K65_0.125W_1%_0805
designator R?, comment 3K65
Resistenza SMD TE Connectivity Film sottile; Voltage[V]: 100; Tollerance[%]: 0.1; Serie: CPF; Vendor: TE Connectivity; Type: Resistors; Package: 0805; Power[W]: 0.1; Value[OHM ]: 3K65
footprint RES_0816_SUS(My_MAXI)
pins: 1, 2

## RES_3K70_0.125W_1%_0805
designator R?, comment 3K70
Resistenza SMD TE Connectivity Film sottile; Voltage[V]: 100; Tollerance[%]: 0.1; Serie: CPF; Vendor: TE Connectivity; Type: Resistors; Package: 0805; Power[W]: 0.1; Value[OHM ]: 3K70
footprint RES_0816_SUS(My_MAXI)
pins: 1, 2

## RES_3K74_0.125W_1%_0805
designator R?, comment 3K74
Resistenza SMD TE Connectivity Film sottile; Voltage[V]: 100; Tollerance[%]: 0.1; Serie: CPF; Vendor: TE Connectivity; Type: Resistors; Package: 0805; Power[W]: 0.1; Value[OHM ]: 3K74
footprint RES_0816_SUS(My_MAXI)
pins: 1, 2

## RES_3K79_0.125W_1%_0805
designator R?, comment 3K79
Resistenza SMD TE Connectivity Film sottile; Voltage[V]: 100; Tollerance[%]: 0.1; Serie: CPF; Vendor: TE Connectivity; Type: Resistors; Package: 0805; Power[W]: 0.1; Value[OHM ]: 3K79
footprint RES_0816_SUS(My_MAXI)
pins: 1, 2

## RES_3K83_0.125W_1%_0805
designator R?, comment 3K83
Resistenza SMD TE Connectivity Film sottile; Voltage[V]: 100; Tollerance[%]: 0.1; Serie: CPF; Vendor: TE Connectivity; Type: Resistors; Package: 0805; Power[W]: 0.1; Value[OHM ]: 3K83
footprint RES_0816_SUS(My_MAXI)
pins: 1, 2

## RES_3K88_0.125W_1%_0805
designator R?, comment 3K88
Resistenza SMD TE Connectivity Film sottile; Voltage[V]: 100; Tollerance[%]: 0.1; Serie: CPF; Vendor: TE Connectivity; Type: Resistors; Package: 0805; Power[W]: 0.1; Value[OHM ]: 3K88
footprint RES_0816_SUS(My_MAXI)
pins: 1, 2

## RES_3K92_0.125W_1%_0805
designator R?, comment 3K92
Resistenza SMD TE Connectivity Film sottile; Voltage[V]: 100; Tollerance[%]: 0.1; Serie: CPF; Vendor: TE Connectivity; Type: Resistors; Package: 0805; Power[W]: 0.1; Value[OHM ]: 3K92
footprint RES_0816_SUS(My_MAXI)
pins: 1, 2

## RES_3K97_0.125W_1%_0805
designator R?, comment 3K97
Resistenza SMD TE Connectivity Film sottile; Voltage[V]: 100; Tollerance[%]: 0.1; Serie: CPF; Vendor: TE Connectivity; Type: Resistors; Package: 0805; Power[W]: 0.1; Value[OHM ]: 3K97
footprint RES_0816_SUS(My_MAXI)
pins: 1, 2

## RES_4.3_0.125W_5%_0805
designator R?, comment 4.3
Resistenza SMD TE Connectivity Film sottile; Voltage[V]: 100; Tollerance[%]: 0.05; Power[W]: 0.1; Serie: CPF; Vendor: TE Connectivity; Type: Resistors; Package: 0805; Value[OHM ]: 4.3
footprint RES_0816_SUS(My_MAXI)
pins: 1, 2

## RES_4.7_0.125W_5%_0805
designator R?, comment 4.7
Resistenza SMD TE Connectivity Film sottile; Voltage[V]: 100; Tollerance[%]: 0.05; Power[W]: 0.1; Serie: CPF; Vendor: TE Connectivity; Type: Resistors; Package: 0805; Value[OHM ]: 4.7
footprint RES_0816_SUS(My_MAXI)
pins: 1, 2

## RES_4K02_0.125W_1%_0805
designator R?, comment 4K02
Resistenza SMD TE Connectivity Film sottile; Voltage[V]: 100; Tollerance[%]: 0.1; Serie: CPF; Vendor: TE Connectivity; Type: Resistors; Package: 0805; Power[W]: 0.1; Value[OHM ]: 4K02
footprint RES_0816_SUS(My_MAXI)
pins: 1, 2

## RES_4K07_0.125W_1%_0805
designator R?, comment 4K07
Resistenza SMD TE Connectivity Film sottile; Voltage[V]: 100; Tollerance[%]: 0.1; Serie: CPF; Vendor: TE Connectivity; Type: Resistors; Package: 0805; Power[W]: 0.1; Value[OHM ]: 4K07
footprint RES_0816_SUS(My_MAXI)
pins: 1, 2

## RES_4K12_0.125W_1%_0805
designator R?, comment 4K12
Resistenza SMD TE Connectivity Film sottile; Voltage[V]: 100; Tollerance[%]: 0.1; Serie: CPF; Vendor: TE Connectivity; Type: Resistors; Package: 0805; Power[W]: 0.1; Value[OHM ]: 4K12
footprint RES_0816_SUS(My_MAXI)
pins: 1, 2

## RES_4K17_0.125W_1%_0805
designator R?, comment 4K17
Resistenza SMD TE Connectivity Film sottile; Voltage[V]: 100; Tollerance[%]: 0.1; Serie: CPF; Vendor: TE Connectivity; Type: Resistors; Package: 0805; Power[W]: 0.1; Value[OHM ]: 4K17
footprint RES_0816_SUS(My_MAXI)
pins: 1, 2

## RES_4K22_0.125W_1%_0805
designator R?, comment 4K22
Resistenza SMD TE Connectivity Film sottile; Voltage[V]: 100; Tollerance[%]: 0.1; Serie: CPF; Vendor: TE Connectivity; Type: Resistors; Package: 0805; Power[W]: 0.1; Value[OHM ]: 4K22
footprint RES_0816_SUS(My_MAXI)
pins: 1, 2

## RES_4K27_0.125W_1%_0805
designator R?, comment 4K27
Resistenza SMD TE Connectivity Film sottile; Voltage[V]: 100; Tollerance[%]: 0.1; Serie: CPF; Vendor: TE Connectivity; Type: Resistors; Package: 0805; Power[W]: 0.1; Value[OHM ]: 4K27
footprint RES_0816_SUS(My_MAXI)
pins: 1, 2

## RES_4K32_0.125W_1%_0805
designator R?, comment 4K32
Resistenza SMD TE Connectivity Film sottile; Voltage[V]: 100; Tollerance[%]: 0.1; Serie: CPF; Vendor: TE Connectivity; Type: Resistors; Package: 0805; Power[W]: 0.1; Value[OHM ]: 4K32
footprint RES_0816_SUS(My_MAXI)
pins: 1, 2

## RES_4K37_0.125W_1%_0805
designator R?, comment 4K37
Resistenza SMD TE Connectivity Film sottile; Voltage[V]: 100; Tollerance[%]: 0.1; Serie: CPF; Vendor: TE Connectivity; Type: Resistors; Package: 0805; Power[W]: 0.1; Value[OHM ]: 4K37
footprint RES_0816_SUS(My_MAXI)
pins: 1, 2

## RES_4K42_0.125W_1%_0805
designator R?, comment 4K42
Resistenza SMD TE Connectivity Film sottile; Voltage[V]: 100; Tollerance[%]: 0.1; Serie: CPF; Vendor: TE Connectivity; Type: Resistors; Package: 0805; Power[W]: 0.1; Value[OHM ]: 4K42
footprint RES_0816_SUS(My_MAXI)
pins: 1, 2

## RES_4K48_0.125W_1%_0805
designator R?, comment 4K48
Resistenza SMD TE Connectivity Film sottile; Voltage[V]: 100; Tollerance[%]: 0.1; Serie: CPF; Vendor: TE Connectivity; Type: Resistors; Package: 0805; Power[W]: 0.1; Value[OHM ]: 4K48
footprint RES_0816_SUS(My_MAXI)
pins: 1, 2

## RES_4K53_0.125W_1%_0805
designator R?, comment 4K53
Resistenza SMD TE Connectivity Film sottile; Voltage[V]: 100; Tollerance[%]: 0.1; Serie: CPF; Vendor: TE Connectivity; Type: Resistors; Package: 0805; Power[W]: 0.1; Value[OHM ]: 4K53
footprint RES_0816_SUS(My_MAXI)
pins: 1, 2

## RES_4K59_0.125W_1%_0805
designator R?, comment 4K59
Resistenza SMD TE Connectivity Film sottile; Voltage[V]: 100; Tollerance[%]: 0.1; Serie: CPF; Vendor: TE Connectivity; Type: Resistors; Package: 0805; Power[W]: 0.1; Value[OHM ]: 4K59
footprint RES_0816_SUS(My_MAXI)
pins: 1, 2

## RES_4K64_0.125W_1%_0805
designator R?, comment 4K64
Resistenza SMD TE Connectivity Film sottile; Voltage[V]: 100; Tollerance[%]: 0.1; Serie: CPF; Vendor: TE Connectivity; Type: Resistors; Package: 0805; Power[W]: 0.1; Value[OHM ]: 4K64
footprint RES_0816_SUS(My_MAXI)
pins: 1, 2

## RES_4K70_0.125W_1%_0805
designator R?, comment 4K70
Resistenza SMD TE Connectivity Film sottile; Voltage[V]: 100; Tollerance[%]: 0.1; Serie: CPF; Vendor: TE Connectivity; Type: Resistors; Package: 0805; Power[W]: 0.1; Value[OHM ]: 4K70
footprint RES_0816_SUS(My_MAXI)
pins: 1, 2

## RES_4K75_0.125W_1%_0805
designator R?, comment 4K75
Resistenza SMD TE Connectivity Film sottile; Voltage[V]: 100; Tollerance[%]: 0.1; Serie: CPF; Vendor: TE Connectivity; Type: Resistors; Package: 0805; Power[W]: 0.1; Value[OHM ]: 4K75
footprint RES_0816_SUS(My_MAXI)
pins: 1, 2

## RES_4K81_0.125W_1%_0805
designator R?, comment 4K81
Resistenza SMD TE Connectivity Film sottile; Voltage[V]: 100; Tollerance[%]: 0.1; Serie: CPF; Vendor: TE Connectivity; Type: Resistors; Package: 0805; Power[W]: 0.1; Value[OHM ]: 4K81
footprint RES_0816_SUS(My_MAXI)
pins: 1, 2

## RES_4K87_0.125W_1%_0805
designator R?, comment 4K87
Resistenza SMD TE Connectivity Film sottile; Voltage[V]: 100; Tollerance[%]: 0.1; Serie: CPF; Vendor: TE Connectivity; Type: Resistors; Package: 0805; Power[W]: 0.1; Value[OHM ]: 4K87
footprint RES_0816_SUS(My_MAXI)
pins: 1, 2

## RES_4K93_0.125W_1%_0805
designator R?, comment 4K93
Resistenza SMD TE Connectivity Film sottile; Voltage[V]: 100; Tollerance[%]: 0.1; Serie: CPF; Vendor: TE Connectivity; Type: Resistors; Package: 0805; Power[W]: 0.1; Value[OHM ]: 4K93
footprint RES_0816_SUS(My_MAXI)
pins: 1, 2

## RES_4K99_0.125W_1%_0805
designator R?, comment 4K99
Resistenza SMD TE Connectivity Film sottile; Voltage[V]: 100; Tollerance[%]: 0.1; Serie: CPF; Vendor: TE Connectivity; Type: Resistors; Package: 0805; Power[W]: 0.1; Value[OHM ]: 4K99
footprint RES_0816_SUS(My_MAXI)
pins: 1, 2

## RES_5.1_0.125W_5%_0805
designator R?, comment 5.1
Resistenza SMD TE Connectivity Film sottile; Voltage[V]: 100; Tollerance[%]: 0.05; Power[W]: 0.1; Serie: CPF; Vendor: TE Connectivity; Type: Resistors; Package: 0805; Value[OHM ]: 5.1
footprint RES_0816_SUS(My_MAXI)
pins: 1, 2

## RES_5.6_0.125W_5%_0805
designator R?, comment 5.6
Resistenza SMD TE Connectivity Film sottile; Voltage[V]: 100; Tollerance[%]: 0.05; Power[W]: 0.1; Serie: CPF; Vendor: TE Connectivity; Type: Resistors; Package: 0805; Value[OHM ]: 5.6
footprint RES_0816_SUS(My_MAXI)
pins: 1, 2

## RES_5K05_0.125W_1%_0805
designator R?, comment 5K05
Resistenza SMD TE Connectivity Film sottile; Voltage[V]: 100; Tollerance[%]: 0.1; Serie: CPF; Vendor: TE Connectivity; Type: Resistors; Package: 0805; Power[W]: 0.1; Value[OHM ]: 5K05
footprint RES_0816_SUS(My_MAXI)
pins: 1, 2

## RES_5K11_0.125W_1%_0805
designator R?, comment 5K11
Resistenza SMD TE Connectivity Film sottile; Voltage[V]: 100; Tollerance[%]: 0.1; Serie: CPF; Vendor: TE Connectivity; Type: Resistors; Package: 0805; Power[W]: 0.1; Value[OHM ]: 5K11
footprint RES_0816_SUS(My_MAXI)
pins: 1, 2

## RES_5K17_0.125W_1%_0805
designator R?, comment 5K17
Resistenza SMD TE Connectivity Film sottile; Voltage[V]: 100; Tollerance[%]: 0.1; Serie: CPF; Vendor: TE Connectivity; Type: Resistors; Package: 0805; Power[W]: 0.1; Value[OHM ]: 5K17
footprint RES_0816_SUS(My_MAXI)
pins: 1, 2

## RES_5K23_0.125W_1%_0805
designator R?, comment 5K23
Resistenza SMD TE Connectivity Film sottile; Voltage[V]: 100; Tollerance[%]: 0.1; Serie: CPF; Vendor: TE Connectivity; Type: Resistors; Package: 0805; Power[W]: 0.1; Value[OHM ]: 5K23
footprint RES_0816_SUS(My_MAXI)
pins: 1, 2

## RES_5K30_0.125W_1%_0805
designator R?, comment 530
Resistenza SMD TE Connectivity Film sottile; Voltage[V]: 100; Tollerance[%]: 0.1; Serie: CPF; Vendor: TE Connectivity; Type: Resistors; Package: 0805; Power[W]: 0.1; Value[OHM ]: 530
footprint RES_0816_SUS(My_MAXI)
pins: 1, 2

## RES_5K36_0.125W_1%_0805
designator R?, comment 5K36
Resistenza SMD TE Connectivity Film sottile; Voltage[V]: 100; Tollerance[%]: 0.1; Serie: CPF; Vendor: TE Connectivity; Type: Resistors; Package: 0805; Power[W]: 0.1; Value[OHM ]: 5K36
footprint RES_0816_SUS(My_MAXI)
pins: 1, 2

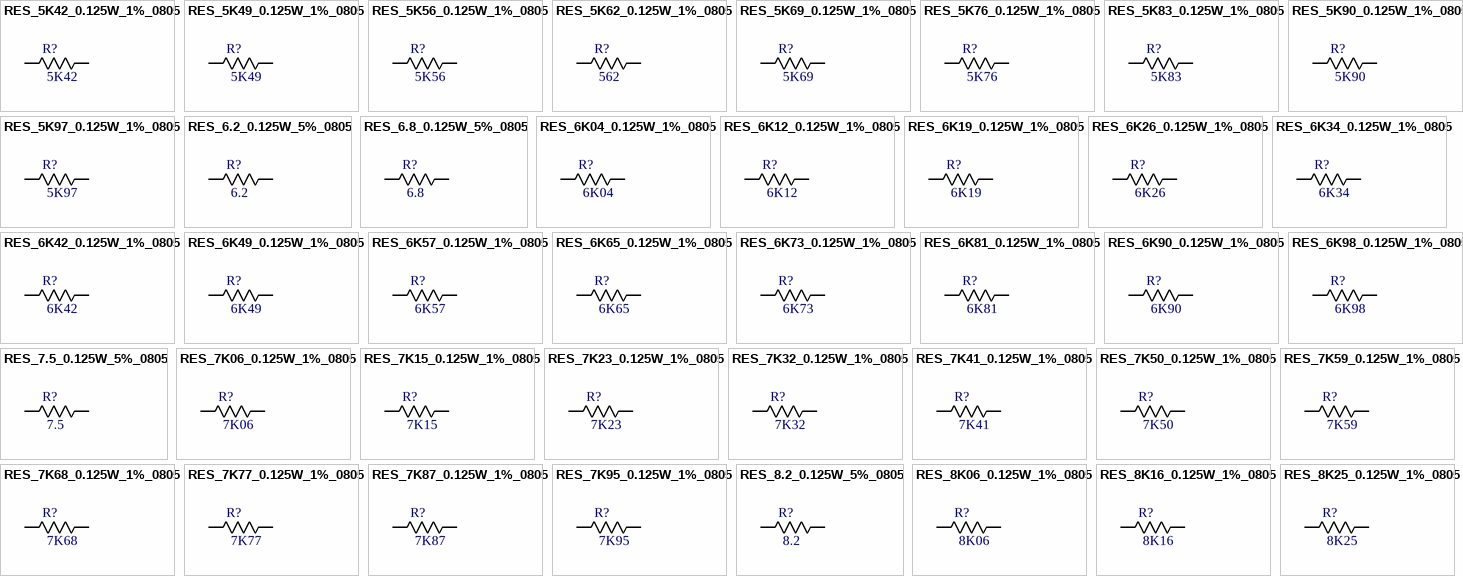
[diagram p4: symbols RES_5K42_0.125W_1%_0805 to RES_8K25_0.125W_1%_0805]

## RES_5K42_0.125W_1%_0805
designator R?, comment 5K42
Resistenza SMD TE Connectivity Film sottile; Voltage[V]: 100; Tollerance[%]: 0.1; Serie: CPF; Vendor: TE Connectivity; Type: Resistors; Package: 0805; Power[W]: 0.1; Value[OHM ]: 5K42
footprint RES_0816_SUS(My_MAXI)
pins: 1, 2

## RES_5K49_0.125W_1%_0805
designator R?, comment 5K49
Resistenza SMD TE Connectivity Film sottile; Voltage[V]: 100; Tollerance[%]: 0.1; Serie: CPF; Vendor: TE Connectivity; Type: Resistors; Package: 0805; Power[W]: 0.1; Value[OHM ]: 5K49
footprint RES_0816_SUS(My_MAXI)
pins: 1, 2

## RES_5K56_0.125W_1%_0805
designator R?, comment 5K56
Resistenza SMD TE Connectivity Film sottile; Voltage[V]: 100; Tollerance[%]: 0.1; Serie: CPF; Vendor: TE Connectivity; Type: Resistors; Package: 0805; Power[W]: 0.1; Value[OHM ]: 5K56
footprint RES_0816_SUS(My_MAXI)
pins: 1, 2

## RES_5K62_0.125W_1%_0805
designator R?, comment 562
Resistenza SMD TE Connectivity Film sottile; Voltage[V]: 100; Tollerance[%]: 0.1; Serie: CPF; Vendor: TE Connectivity; Type: Resistors; Package: 0805; Power[W]: 0.1; Value[OHM ]: 562
footprint RES_0816_SUS(My_MAXI)
pins: 1, 2

## RES_5K69_0.125W_1%_0805
designator R?, comment 5K69
Resistenza SMD TE Connectivity Film sottile; Voltage[V]: 100; Tollerance[%]: 0.1; Serie: CPF; Vendor: TE Connectivity; Type: Resistors; Package: 0805; Power[W]: 0.1; Value[OHM ]: 5K69
footprint RES_0816_SUS(My_MAXI)
pins: 1, 2

## RES_5K76_0.125W_1%_0805
designator R?, comment 5K76
Resistenza SMD TE Connectivity Film sottile; Voltage[V]: 100; Tollerance[%]: 0.1; Serie: CPF; Vendor: TE Connectivity; Type: Resistors; Package: 0805; Power[W]: 0.1; Value[OHM ]: 5K76
footprint RES_0816_SUS(My_MAXI)
pins: 1, 2

## RES_5K83_0.125W_1%_0805
designator R?, comment 5K83
Resistenza SMD TE Connectivity Film sottile; Voltage[V]: 100; Tollerance[%]: 0.1; Serie: CPF; Vendor: TE Connectivity; Type: Resistors; Package: 0805; Power[W]: 0.1; Value[OHM ]: 5K83
footprint RES_0816_SUS(My_MAXI)
pins: 1, 2